# Altium schematic symbol library Amplifiers Operational.SchLib: 2 symbols
Pins are listed as number, name and electrical type; pins without a type are passive.

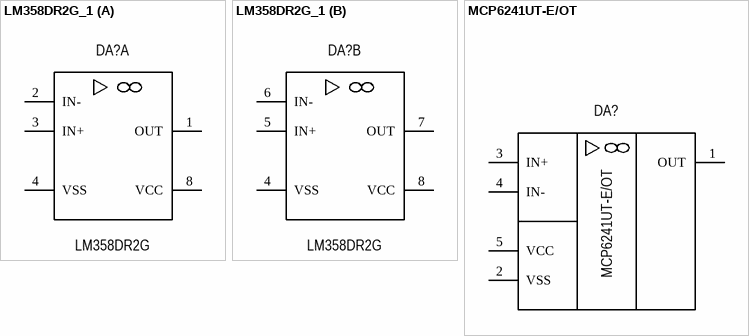
[diagram p0: symbols LM358DR2G_1 to MCP6241UT-E/OT]

## LM358DR2G_1
designator DA?, comment LM358DR2G
Operational Amplifier 2Chanel; Manufacturer: ON Semiconductor; Package: SOIC-8; Group: Operational Amplifier; Part name: LM358DR2G
footprint SOIC-8
pins on every part: 4 VSS, 8 VCC
part A pins: 1 OUT, 2 IN-, 3 IN+
part B pins: 5 IN+, 6 IN-, 7 OUT

## MCP6241UT-E/OT
designator DA?
Operational Amplifier 1Chanel; Manufacturer: Microchip Technology; Package: SOT-23-5; Group: Operational Amplifier; Part name: MCP6241UT-E/OT
footprint SOT-23-5N
footprint SOT-23-5L
pins: 1 OUT, 2 VSS, 3 IN+, 4 IN-, 5 VCC